# Altium footprint library Main board for stk  modify202003031.PcbLib: 70 footprints (part 2 of 5)
Each footprint in its own frame and in the unit in brackets; x right, y up, seen from the top. Pads: shape width x height; smd on the part's side, far side on the other; paste and mask are expansions set on the pad; w line width, h text height; cw(c..) or ccw(c..) is an arc to the next point about the centre after c.
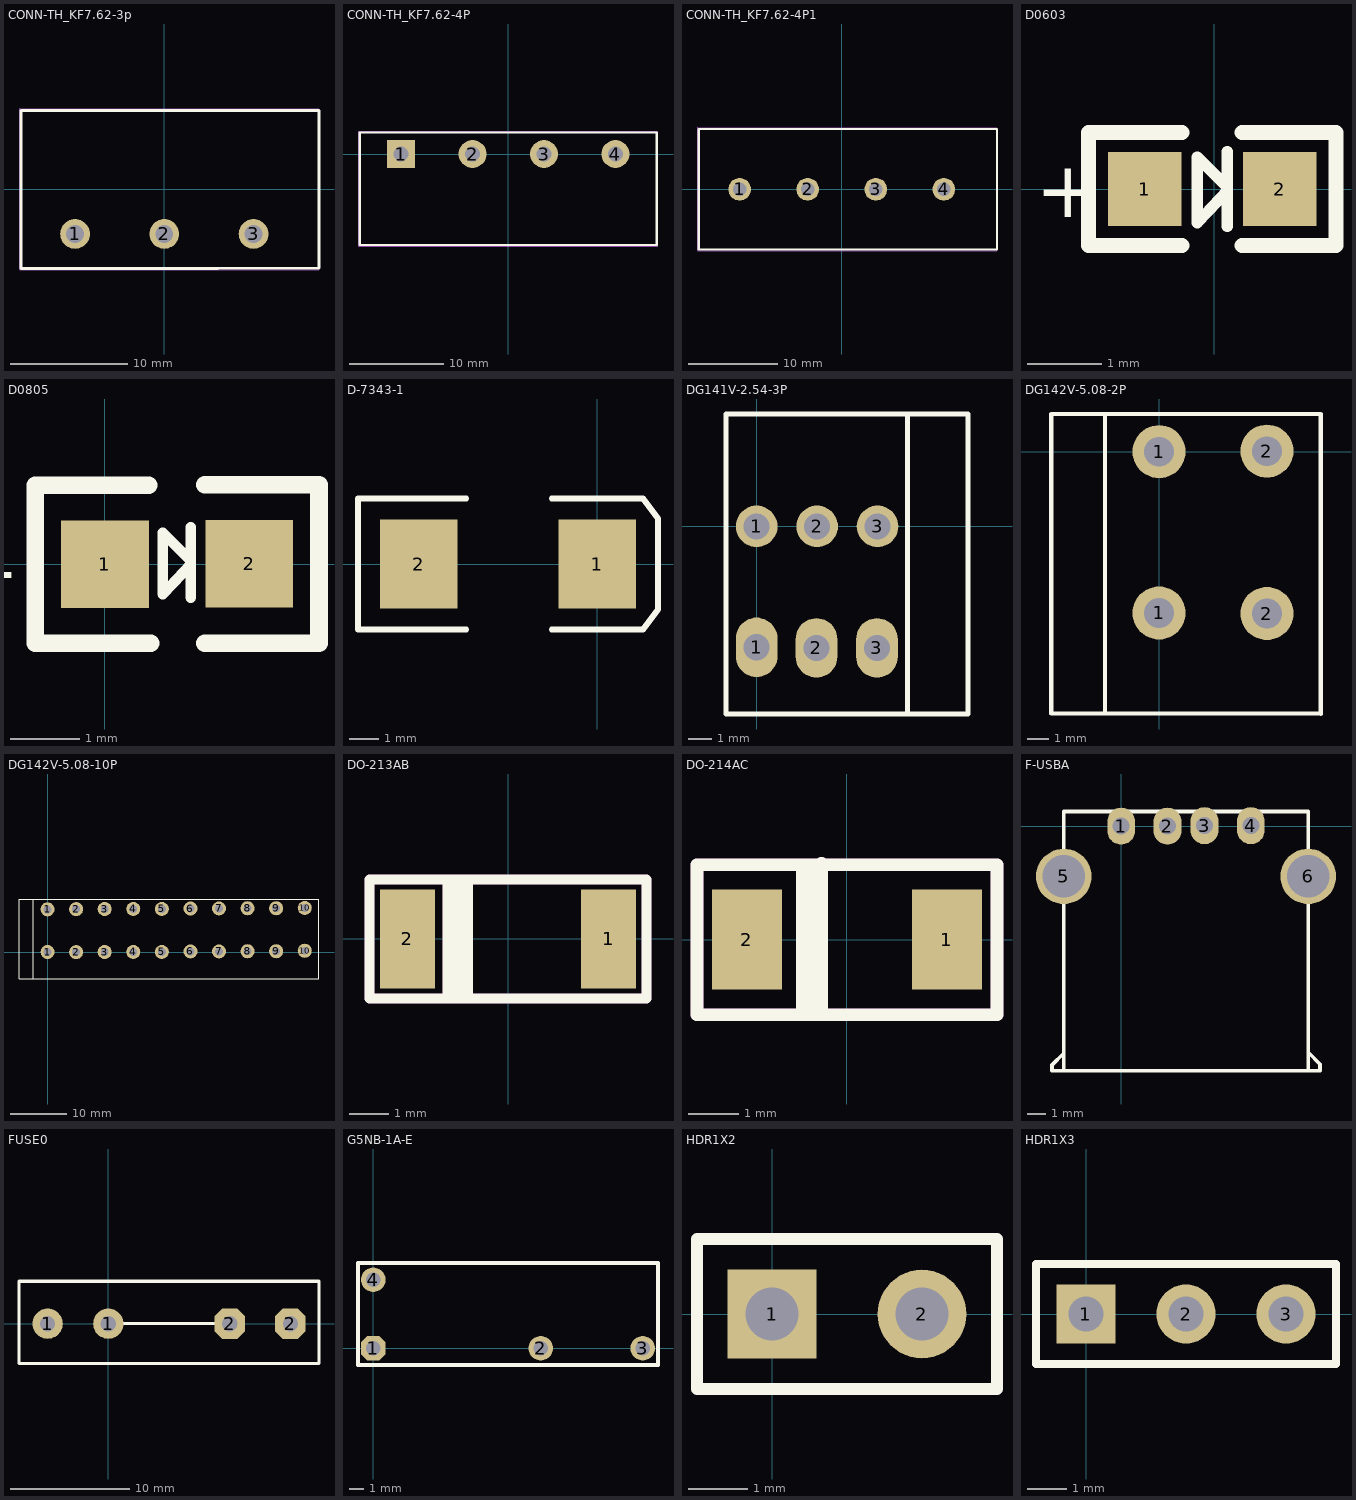
[diagram p1: the footprints below, top view; thin cyan lines are the x and y axes]

## CONN-TH_KF7.62-3p [mil]
pads (3):
  round 100 hole 60 paste+0 mask+2: 1(-300.19,-150) 2(0.01,-150) 3(300.19,-150)
Top Overlay:
  lines w10: -481.3,-265.75 -481.3,265.75 181.1,265.75 520.2,265.75 520.2,-265 181.1,-265.75 -481.3,-265.75
Mechanical 15:
  region: -483.94,270.75 -483.94,271.73 -485.32,273.11 -487.28,273.11 -488.66,271.73 -488.66,270.75 -488.66,269.77 -487.28,268.39 -485.32,268.39 -483.94,269.77
  region: 26.07,-150 26.07,-146.57 24.29,-139.94 20.86,-134 16.01,-129.14 10.07,-125.71 3.44,-123.94 -3.42,-123.94 -10.05,-125.71 -16,-129.14 -20.85,-134 -24.28,-139.94 -26.06,-146.57 -26.06,-150 -26.06,-153.43 -24.28,-160.06 -20.85,-166 -16,-170.85 -10.05,-174.28 -3.42,-176.06 3.44,-176.06 10.07,-174.28 16.01,-170.85 20.86,-166 24.29,-160.06 26.07,-153.43
  region: -274.13,-150 -274.13,-146.57 -275.91,-139.94 -279.34,-134 -284.19,-129.14 -290.13,-125.71 -296.76,-123.94 -303.62,-123.94 -310.25,-125.71 -316.2,-129.14 -321.05,-134 -324.48,-139.94 -326.26,-146.57 -326.26,-150 -326.26,-153.43 -324.48,-160.06 -321.05,-166 -316.2,-170.85 -310.25,-174.28 -303.62,-176.06 -296.76,-176.06 -290.13,-174.28 -284.19,-170.85 -279.34,-166 -275.91,-160.06 -274.13,-153.43
  region: 326.26,-150 326.26,-146.57 324.48,-139.94 321.05,-134 316.2,-129.14 310.26,-125.71 303.63,-123.94 296.77,-123.94 290.14,-125.71 284.19,-129.14 279.34,-134 275.91,-139.94 274.13,-146.57 274.13,-150 274.13,-153.43 275.91,-160.06 279.34,-166 284.19,-170.85 290.14,-174.28 296.77,-176.06 303.63,-176.06 310.26,-174.28 316.2,-170.85 321.05,-166 324.48,-160.06 326.26,-153.43
  lines w2: -486.3,-270.75 -486.3,270.75 520.2,270.75 520.2,-270.75 -486.3,-270.75

## CONN-TH_KF7.62-4P [mm]
pads (4):
  rect 3x3 hole 1.6 paste+0 mask+0.051: 1(-11.43,0)
  round 3 hole 1.6 paste+0 mask+0.051: 2(-3.81,0) 3(3.81,0) 4(11.43,0)
Top Overlay:
  lines w0.254: -15.84,-9.7 15.84,-9.7 15.84,2.3 -15.84,2.3 -15.84,-9.7
Mechanical 15:
  region: -15.907,-9.827 -15.907,-9.802 -15.942,-9.767 -15.992,-9.767 -16.027,-9.802 -16.027,-9.827 -16.027,-9.852 -15.992,-9.887 -15.942,-9.887 -15.907,-9.852
  region: 12.13,0 12.13,0.092 12.082,0.27 11.99,0.43 11.86,0.56 11.7,0.652 11.522,0.7 11.338,0.7 11.16,0.652 11,0.56 10.87,0.43 10.778,0.27 10.73,0.092 10.73,0 10.73,-0.092 10.778,-0.27 10.87,-0.43 11,-0.56 11.16,-0.652 11.338,-0.7 11.522,-0.7 11.7,-0.652 11.86,-0.56 11.99,-0.43 12.082,-0.27 12.13,-0.092
  region: 4.51,0 4.51,0.092 4.462,0.27 4.37,0.43 4.24,0.56 4.08,0.652 3.902,0.7 3.718,0.7 3.54,0.652 3.38,0.56 3.25,0.43 3.158,0.27 3.11,0.092 3.11,0 3.11,-0.092 3.158,-0.27 3.25,-0.43 3.38,-0.56 3.54,-0.652 3.718,-0.7 3.902,-0.7 4.08,-0.652 4.24,-0.56 4.37,-0.43 4.462,-0.27 4.51,-0.092
  region: -3.11,0 -3.11,0.092 -3.158,0.27 -3.25,0.43 -3.38,0.56 -3.54,0.652 -3.718,0.7 -3.902,0.7 -4.08,0.652 -4.24,0.56 -4.37,0.43 -4.462,0.27 -4.51,0.092 -4.51,0 -4.51,-0.092 -4.462,-0.27 -4.37,-0.43 -4.24,-0.56 -4.08,-0.652 -3.902,-0.7 -3.718,-0.7 -3.54,-0.652 -3.38,-0.56 -3.25,-0.43 -3.158,-0.27 -3.11,-0.092
  region: -10.73,0 -10.73,0.092 -10.778,0.27 -10.87,0.43 -11,0.56 -11.16,0.652 -11.338,0.7 -11.522,0.7 -11.7,0.652 -11.86,0.56 -11.99,0.43 -12.082,0.27 -12.13,0.092 -12.13,0 -12.13,-0.092 -12.082,-0.27 -11.99,-0.43 -11.86,-0.56 -11.7,-0.652 -11.522,-0.7 -11.338,-0.7 -11.16,-0.652 -11,-0.56 -10.87,-0.43 -10.778,-0.27 -10.73,-0.092
  lines w0.051: -15.967,-9.827 -15.967,2.427 15.967,2.427 15.967,-9.827 -15.967,-9.827

## CONN-TH_KF7.62-4P1 [mil]
pads (4):
  round 100 hole 60 paste+0 mask+2: 1(-450.3,0) 2(-150.09,0) 3(150.09,0) 4(450.3,0)
Top Overlay:
  lines w10: -631.4,-265.75 -631.4,265.75 31,265.75 331.2,265.75 631.4,265.75 685.1,265.75 685.1,-265.75 631.4,-265.75 331.2,-265.75 31,-265.75 -631.4,-265.75
Mechanical 15:
  region: -634.03,270.75 -634.03,271.73 -635.42,273.11 -637.38,273.11 -638.76,271.73 -638.76,270.75 -638.76,269.77 -637.38,268.39 -635.42,268.39 -634.03,269.77
  region: 476.36,0 476.36,3.43 474.58,10.06 471.15,16 466.3,20.86 460.36,24.29 453.73,26.06 446.87,26.06 440.24,24.29 434.29,20.86 429.44,16 426.01,10.06 424.23,3.43 424.23,0 424.23,-3.43 426.01,-10.06 429.44,-16 434.29,-20.85 440.24,-24.28 446.87,-26.06 453.73,-26.06 460.36,-24.28 466.3,-20.85 471.15,-16 474.58,-10.06 476.36,-3.43
  region: -124.03,0 -124.03,3.43 -125.81,10.06 -129.24,16 -134.09,20.86 -140.03,24.29 -146.66,26.06 -153.52,26.06 -160.15,24.29 -166.1,20.86 -170.95,16 -174.38,10.06 -176.16,3.43 -176.16,0 -176.16,-3.43 -174.38,-10.06 -170.95,-16 -166.1,-20.85 -160.15,-24.28 -153.52,-26.06 -146.66,-26.06 -140.03,-24.28 -134.09,-20.85 -129.24,-16 -125.81,-10.06 -124.03,-3.43
  region: -424.23,0 -424.23,3.43 -426.01,10.06 -429.44,16 -434.29,20.86 -440.23,24.29 -446.86,26.06 -453.72,26.06 -460.35,24.29 -466.3,20.86 -471.15,16 -474.58,10.06 -476.36,3.43 -476.36,0 -476.36,-3.43 -474.58,-10.06 -471.15,-16 -466.3,-20.85 -460.35,-24.28 -453.72,-26.06 -446.86,-26.06 -440.23,-24.28 -434.29,-20.85 -429.44,-16 -426.01,-10.06 -424.23,-3.43
  region: 176.16,0 176.16,3.43 174.38,10.06 170.95,16 166.1,20.86 160.16,24.29 153.53,26.06 146.67,26.06 140.04,24.29 134.09,20.86 129.24,16 125.81,10.06 124.03,3.43 124.03,0 124.03,-3.43 125.81,-10.06 129.24,-16 134.09,-20.85 140.04,-24.28 146.67,-26.06 153.53,-26.06 160.16,-24.28 166.1,-20.85 170.95,-16 174.38,-10.06 176.16,-3.43
  lines w2: -636.4,-270.75 -636.4,270.75 685,270.75 685,-270.75 -636.4,-270.75

## D0603 [mm]
pads (2):
  rect 1x1 smd: 1(-0.94,0) 2(0.889,0)
Top Overlay:
  lines w0.152: 0.178,-0.508 0.178,0.508 ; 0.178,-0.025 -0.229,-0.457 -0.229,0.432 0.178,0.025
  lines w0.203: -0.432,-0.762 -1.702,-0.762 -1.702,0.762 -0.432,0.762 ; 0.381,-0.762 1.651,-0.762 1.651,0.762 0.381,0.762
  text "+" at -2.413,-0.381 h0.76
3D body: height 0.46, standoff 0, extent -0.28,-0.279 0.255,0.279
3D body: height 0.38, standoff 0, extent -0.603,-0.533 0.567,0.533
3D body: height 0.38, standoff 0, extent -1.026,-0.535 -0.602,0.535
3D body: height 0.38, standoff 0, extent 0.563,-0.532 0.988,0.532

## D0805 [mm] "1/8W"
pads (2):
  rect 1.27x1.27 smd: 1(0,0) 2(2.09,0.005)
Top Overlay:
  lines w0.152: 1.245,-0.483 1.245,0.533 ; 1.245,0 0.838,-0.432 0.838,0.457 1.245,0.051
  lines w0.254: 0.635,1.143 -1.011,1.143 -1.011,-1.143 0.66,-1.143 ; 1.448,-1.143 3.099,-1.143 3.099,1.148 1.448,1.148
  text "+" at -1.245,-0.483 h0.76
3D body: height 0.46, standoff 0, extent 0.787,-0.254 1.322,0.305
3D body "R0805.STEP": height 0.55, standoff 0, extent 0.036,-0.62 2.036,0.64

## D-7343-1 [mm]
pads (2):
  rect 2.6x3 smd: 1(0,0) 2(-6,0)
Top Overlay:
  lines w0.2: -4.4,-2.2 -8.032,-2.2 -8.032,2.2 -4.4,2.2 ; -1.532,-2.2 1.532,-2.2 2.032,-1.524 2.032,1.524 1.532,2.2 -1.532,2.2

## DG141V-2.54-3P [mm]
height 0.7
pads (6):
  oval 1.75x2.5 hole 1.1: 1(0,-5.08) 2(2.515,-5.105) 3(5.055,-5.105)
  round 1.75 hole 1.1: 1(0,0) 2(2.54,0) 3(5.08,0)
Top Overlay:
  lines w0.2: -1.284,-7.88 -1.284,4.72 8.876,4.72 8.876,-7.88 -1.284,-7.88 ; 6.336,-7.88 6.336,4.72 6.336,-7.88

## DG142V-5.08-2P [mm]
height 0.7
pads (4):
  round 2.5 hole 1.4: 1(0,-7.595) 1(0,0) 2(5.08,-7.62) 2(5.08,0.025)
Top Overlay:
  lines w0.2: -5.082,1.773 -5.082,-12.327 -2.573,-12.327 -2.542,-12.296 -2.542,1.773 ; -5.061,1.773 -2.542,1.773 ; 7.618,-12.352 7.618,1.748 ; 7.618,-12.327 -2.542,-12.327 -2.542,1.773 ; 7.618,1.773 -2.542,1.773

## DG142V-5.08-10P [mm]
pads (20):
  round 2.5 hole 1.4: 1(0,0) 1(0,7.595) 2(5.08,-0.025) 2(5.08,7.62) 3(10.16,0) 3(10.16,7.645) 4(15.24,0.025) 4(15.24,7.671) 5(20.318,0.025) 5(20.318,7.671) 6(25.408,0.114) 6(25.408,7.734) 7(30.488,0.114) 7(30.488,7.76) 8(35.568,0.14) 8(35.568,7.785) 9(40.647,0.14) 9(40.647,7.785) 10(45.737,0.229) 10(45.737,7.849)
Top Overlay:
  lines w0.2: -5.082,9.368 -5.082,-4.732 -2.573,-4.732 -2.542,-4.701 -2.542,9.368 ; -5.061,9.368 -2.542,9.368 ; -2.542,9.368 -2.542,-4.732 48.267,-4.732 48.268,9.368 -2.542,9.368

## DO-213AB [mm]
pads (2):
  rect 1.4x2.5 smd: 1(2.54,0) 2(-2.54,0)
Top Overlay:
  rectangle: -1.524,-1.5 -1.016,1.5
Top Overlay keep-out:
  lines w0.254: -1.524,-1.5 -1.524,1.5 ; -1.016,-1.5 -1.016,1.5 ; -3.5,-1.5 3.5,-1.5 3.5,1.5 -3.5,1.5 -3.5,-1.5

## DO-214AC [mm]
pads (2):
  rect 1.4x2 smd: 1(2,0) 2(-2,0)
Top Overlay:
  rectangle: -1.024,-1.477 -0.516,1.523
Top Overlay keep-out:
  lines w0.254: -3,-1.5 3,-1.5 3,1.5 -3,1.5 -3,-1.5 ; -0.508,-1.476 -0.508,1.524 -0.508,-1.476

## F-USBA [mm]
height 0.7
pads (6):
  oval 1.5x2 hole 0.92: 1(0,0) 2(2.5,0) 3(4.5,0.025) 4(7,0.025)
  round 3 hole 2.3: 5(-3.1,-2.71) 6(10.1,-2.71)
Top Overlay:
  lines w0.203: -3.099,-12.235 -3.099,-12.26 -3.735,-12.897 -3.735,-13.2 -3.725,-13.21 -2.338,-13.21 ; 10.1,-12.21 10.743,-12.853 10.743,-13.2 10.733,-13.21 10.1,-13.21 ; 10.1,-13.21 -3.099,-13.21 -3.099,0.79 10.1,0.79 10.1,-13.21

## FUSE0 [mm]
pads (4):
  round 2.54 hole 1.27: 1(-5.08,0) 1(0,0)
  oct 2.54x2.54 hole 1.27: 2(10.16,0) 2(15.24,0)
Top Overlay:
  lines w0.254: 0,0 10.16,0 ; -7.48,-3.327 17.64,-3.327 17.64,3.556 -7.48,3.556 -7.48,-3.327

## G5NB-1A-E [mm]
pads (4):
  oct 1.7x1.7 hole 1: 1(0,0)
  round 1.7 hole 1: 2(11.5,0) 3(18.5,0) 4(0,4.7)
Top Overlay:
  lines w0.254: -1.05,-1.15 -1.05,5.85 19.55,5.85 19.55,-1.15 -1.05,-1.15

## HDR1X2 [mm] "Connector; Header; 2 Position"
pads (2):
  rect 1.5x1.5 hole 0.9: 1(0,0)
  round 1.5 hole 0.9: 2(2.54,0)
Top Overlay:
  lines w0.2: -1.27,-1.27 3.81,-1.27 3.81,1.27 -1.27,1.27 -1.27,-1.27

## HDR1X3 [mm] "Connector; Header; 3 Position"
pads (3):
  rect 1.5x1.5 hole 0.9: 1(0,0)
  round 1.5 hole 0.9: 2(2.54,0) 3(5.08,0)
Top Overlay:
  lines w0.2: -1.27,-1.27 -1.27,1.27 6.35,1.27 6.35,-1.27 -1.27,-1.27